# Altium schematic symbol library Buck_Converter.schLib: 2 symbols
Pins are listed as number, name and electrical type; pins without a type are passive.

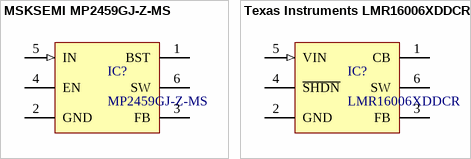
[diagram p0: symbols MSKSEMI MP2459GJ-Z-MS to Texas Instruments LMR16006XDDCR]

## MSKSEMI MP2459GJ-Z-MS
designator IC?, comment MP2459GJ-Z-MS
Buck Converter 4.5V-60V 600mA
footprint Texas InstrumentsSOT95P280X110-6N
pins: 1 BST, 2 GND (power), 3 FB, 4 EN, 5 IN (in), 6 SW

## Texas Instruments LMR16006XDDCR
designator IC?, comment LMR16006XDDCR
Integrated Circuit; Manufacturer_Name: Texas Instruments; Datasheet Link: http://www.ti.com/lit/ds/symlink/lmr16006.pdf; Height: 1.1mm; Manufacturer_Part_Number: LMR16006XDDCR; Mouser Part Number: 595-LMR16006XDDCR; Mouser Price/Stock: https://www.mouser.co.uk/ProductDetail/Texas-Instruments/LMR16006XDDCR?qs=1CfNGUMoiQ95NOKd0bCzxg%3D%3D; Arrow Part Number: LMR16006XDDCR; Arrow Price/Stock: https://www.arrow.com/en/products/lmr16006xddcr/texas-instruments?region=nac
footprint Texas InstrumentsSOT95P280X110-6N
pins: 1 CB, 2 GND (power), 3 FB, 4 ~{SHDN}, 5 VIN (in), 6 SW